# EAGLE library part MRF89XAM9A (library microchip2)
Microchip MRF89XAM9A 915MHz Module
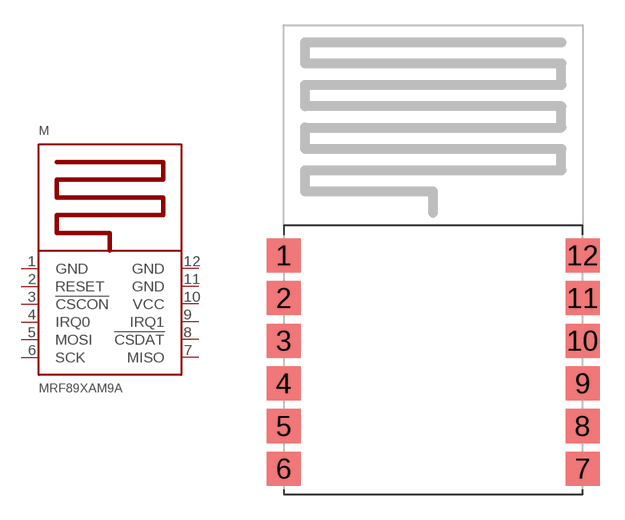
[diagram p165: symbol with the pads of MRF89XAMXA; footprint MRF89XAMXA]

Designator prefix M

## MRF89XAM9A  [MRF89XAMXA]
1  GND  pwr
2  RESET  in
3  !CSCON  in
4  IRQ0  out
5  MOSI  in
6  SCK  in
7  MISO  out
8  !CSDAT  in
9  IRQ1  out
10  VCC  pwr
11  GND  pwr
12  GND  pwr

## Footprint MRF89XAMXA (pad centres in mm)
Microchip MRF89XAMxA Module Footprint
smd 2.032 x 2.032: 1 -8.89,-1.27; 2 -8.89,-3.81; 3 -8.89,-6.35; 4 -8.89,-8.89; 5 -8.89,-11.43; 6 -8.89,-13.97; 7 8.89,-13.97; 8 8.89,-11.43; 9 8.89,-8.89; 10 8.89,-6.35; 11 8.89,-3.81; 12 8.89,-1.27